# Altium footprint library Connector - Card Edge.PcbLib: 1 footprints
Each footprint in its own frame and in the unit in brackets; x right, y up, seen from the top. Pads: shape width x height; smd on the part's side, far side on the other; paste and mask are expansions set on the pad; w line width, h text height; cw(c..) or ccw(c..) is an arc to the next point about the centre after c.
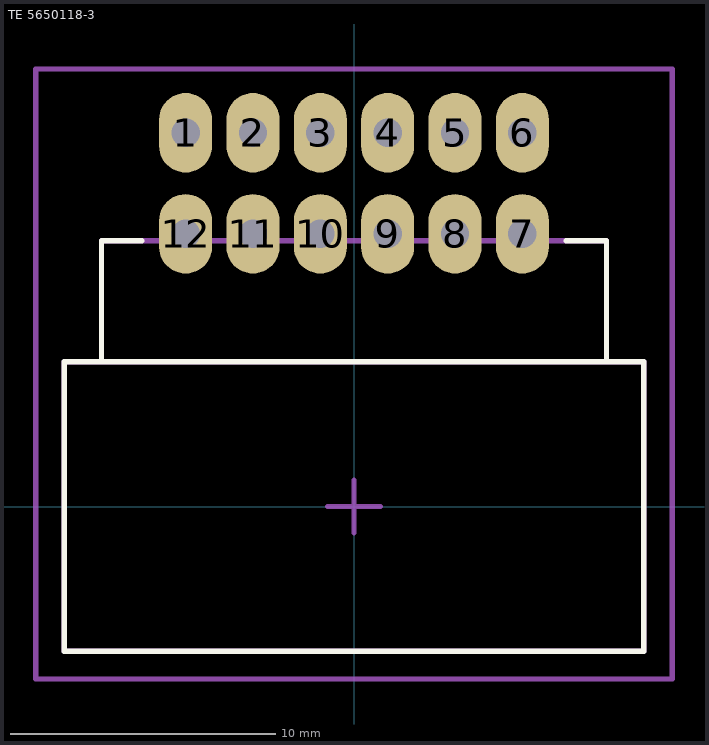
[diagram p0: the footprint, top view; thin cyan lines are the x and y axes]

## TE 5650118-3 [mm]
height 9.35
pads (12):
  oval 2x3 hole 1.07: 1(-6.35,14.097) 2(-3.81,14.097) 3(-1.27,14.097) 4(1.27,14.097) 5(3.81,14.097) 6(6.35,14.097) 7(6.35,10.287) 8(3.81,10.287) 9(1.27,10.287) 10(-1.27,10.287) 11(-3.81,10.287) 12(-6.35,10.287)
Top Overlay:
  lines w0.2: -9.525,5.459 -9.525,10.027 -8,10.027 ; 8,10.027 9.525,10.027 9.525,5.459 ; -10.922,-5.461 -10.922,5.459 10.922,5.459 10.922,-5.461 -10.922,-5.461
Mechanical 1:
  lines w0.2: -9.525,5.459 -9.525,10.027 9.525,10.027 9.525,5.459 ; -10.922,-5.461 10.922,-5.461 10.922,5.459 -10.922,5.459 -10.922,-5.461
Mechanical 15:
  lines w0.2: -1,0 1,0 ; 0,-1 0,1 ; -12,-6.5 12,-6.5 12,16.5 -12,16.5 -12,-6.5
3D body "TE c-5650118-3-a-3d.STEP": height 9.35, standoff -2.29, extent -10.922,-5.461 10.922,14.465